# Altium footprint library Resistors_SMD_IPC-SM-782.PcbLib: 9 footprints
Each footprint in its own frame and in the unit in brackets; x right, y up, seen from the top. Pads: shape width x height; smd on the part's side, far side on the other; paste and mask are expansions set on the pad; w line width, h text height; cw(c..) or ccw(c..) is an arc to the next point about the centre after c.
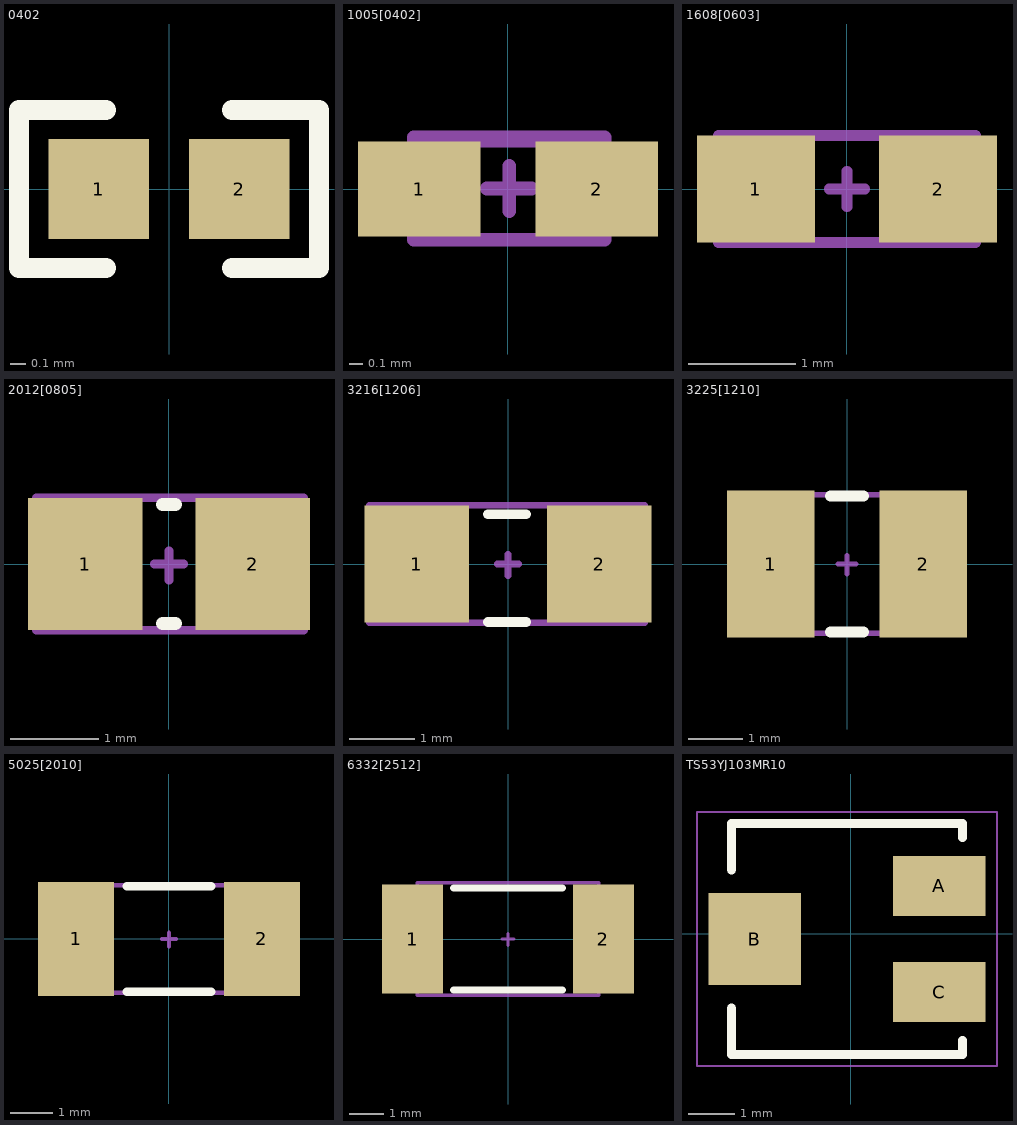
[diagram p0: the footprints below, top view; thin cyan lines are the x and y axes]

## 0402 [mil]
pads (2):
  rect 25x25 smd: 1(-17.5,0) 2(17.5,0)
Top Overlay:
  lines w5: -37.4,-19.68 -15.75,-19.68 ; -37.4,-18.7 -37.4,19.68 -15.75,19.68 ; 15.75,-19.68 37.4,-19.68 37.4,18.7 ; 15.75,19.68 37.4,19.68

## 1005[0402] [mm] "Chip Resistor; Body 1.1 x 0.5 mm (LxW typ)"
height 0.4
pads (2):
  rect 0.9x0.7 smd: 1(-0.65,0) 2(0.65,0)
Mechanical 15:
  lines w0.1: -0.692,0.354 0.708,0.354 ; -0.157,0.004 0.173,0.004 ; 0.008,-0.161 0.008,0.169 ; -0.692,-0.371 0.708,-0.371 0.708,0.379 -0.692,0.379 -0.692,-0.371
3D body "R_0402.step": height 0.35, standoff 0, extent -0.5,-0.25 0.5,0.25

## 1608[0603] [mm] "Chip Resistor; Body 1.6 x 0.8 mm (LxW typ)"
height 0.6
pads (2):
  rect 1.1x1 smd: 1(-0.85,0) 2(0.85,0)
Mechanical 15:
  lines w0.1: -0.165,0 0.165,0 ; 0,-0.165 0,0.165 ; -1.2,-0.5 -1.2,0.5 1.2,0.5 1.2,-0.5 -1.2,-0.5
3D body "R_0603.step": height 0.5, standoff 0, extent -0.8,-0.45 0.8,0.45

## 2012[0805] [mm] "Chip Resistor; Body 2.0 x 1.3 mm (LxW typ)"
height 0.65
pads (2):
  rect 1.3x1.5 smd: 1(-0.95,0) 2(0.95,0)
Top Overlay:
  lines w0.15: -0.072,-0.675 0.071,-0.675 ; -0.072,0.675 0.072,0.675
Mechanical 15:
  lines w0.1: -0.165,0 0.165,0 ; 0,-0.18 0,0.15 ; -1.5,-0.75 1.525,-0.75 1.525,0.75 -1.5,0.75 -1.5,-0.75
3D body "R_0805.step": height 0.5, standoff 0, extent -1,-0.625 1,0.625

## 3216[1206] [mm] "Chip Resistor; Body 3.2 x 1.6 mm (LxW typ)"
height 0.71
pads (2):
  rect 1.6x1.8 smd: 1(-1.4,0) 2(1.4,0)
Top Overlay:
  lines w0.15: -0.305,-0.889 0.279,-0.889 ; -0.305,0.762 0.279,0.762
Mechanical 15:
  lines w0.1: -0.165,0 0.165,0 ; 0,-0.18 0,0.15 ; -2.125,-0.9 2.1,-0.9 2.1,0.9 -2.125,0.9 -2.125,-0.9
3D body "R_1206.step": height 0.6, standoff 0, extent -1.6,-0.8 1.6,0.8

## 3225[1210] [mm] "Chip Resistor; Body 3.2 x 2.5 mm (LxW typ)"
height 0.71
pads (2):
  rect 1.6x2.7 smd: 1(-1.4,0) 2(1.4,0)
Top Overlay:
  lines w0.2: -0.3,-1.25 0.3,-1.25 ; -0.3,1.25 0.3,1.25
Mechanical 15:
  lines w0.1: -0.165,0 0.165,0 ; 0,-0.18 0,0.15 ; -2.125,-1.27 2.1,-1.27 2.1,1.27 -2.125,1.27 -2.125,-1.27
3D body "R_1210.step": height 0.6, standoff 0, extent -1.6,-1.25 1.6,1.25

## 5025[2010] [mm] "Chip Resistor; Body 5.0 x 2.5 mm (LxW typ)"
height 0.71
pads (2):
  rect 1.8x2.7 smd: 1(-2.2,0) 2(2.2,0)
Top Overlay:
  lines w0.2: -1,-1.25 1,-1.25 ; -1,1.25 1,1.25
Mechanical 15:
  lines w0.1: -0.165,0 0.165,0 ; 0,-0.18 0,0.15 ; -2.125,-1.27 -2.125,1.27 2.1,1.27 2.1,-1.27 -2.125,-1.27
3D body "R_2010.step": height 0.6, standoff 0, extent -2.5,-1.25 2.5,1.25

## 6332[2512] [mm] "Chip Resistor; Body 6.3 x 3.2 mm (LxW typ)"
height 0.71
pads (2):
  rect 1.8x3.2 smd: 1(-2.8,0) 2(2.8,0)
Top Overlay:
  lines w0.2: -1.6,-1.5 1.6,-1.5 ; -1.6,1.5 1.6,1.5
Mechanical 15:
  lines w0.1: -0.165,0 0.165,0 ; 0,-0.18 0,0.15 ; -2.667,-1.651 -2.667,1.651 2.667,1.651 2.667,-1.651 -2.667,-1.651
3D body "R_2512.STEP": height 0.6, standoff 0, extent -3.2,-1.6 3.2,1.6

## TS53YJ103MR10 [mm]
pads (3):
  rect 2x1.3 smd: A(1.918,1.04) C(1.918,-1.26)
  rect 2x2 smd: B(-2.082,-0.11)
Top Overlay:
  lines w0.2: -2.582,-1.61 -2.582,-2.61 2.418,-2.61 2.418,-2.31 ; -2.582,1.39 -2.582,2.39 2.418,2.39 2.418,2.09
Mechanical 1:
  lines w0.05: -3.332,-2.86 3.168,-2.86 3.168,2.64 -3.332,2.64 -3.332,-2.86